# Altium footprint library Components - 01.03.23 - 12.42.PcbLib: 3 footprints
Each footprint in its own frame and in the unit in brackets; x right, y up, seen from the top. Pads: shape width x height; smd on the part's side, far side on the other; paste and mask are expansions set on the pad; w line width, h text height; cw(c..) or ccw(c..) is an arc to the next point about the centre after c.
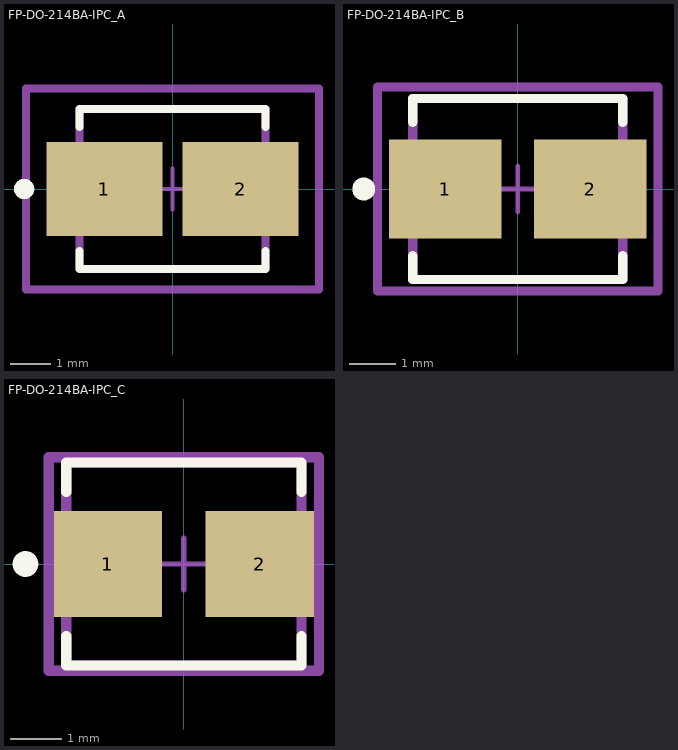
[diagram p0: the footprints below, top view; thin cyan lines are the x and y axes]

## FP-DO-214BA-IPC_A [mm]
pads (2):
  rect 2.85x2.3 smd paste+0 mask+0: 1(-1.675,0) 2(1.675,0)
Top Overlay:
  circle w0.25: c-3.65,0 r0.125
  lines w0.2: -2.285,-1.525 -2.285,-1.97 2.285,-1.97 2.285,-1.525 ; -2.285,1.525 -2.285,1.97 2.285,1.97 2.285,1.525
Top Assembly:
  lines w0.2: -3.6,-2.47 3.6,-2.47 3.6,2.47 -3.6,2.47 -3.6,-2.47
  text ".Designator" at 0,0.188 h1
Top 3D Body:
  lines w0.2: -2.285,-1.97 2.285,-1.97 2.285,1.97 -2.285,1.97 -2.285,-1.97
Top Courtyard:
  lines w0.2: -3.6,-2.47 3.6,-2.47 3.6,2.47 -3.6,2.47 -3.6,-2.47
Top Component Center:
  lines w0.1: -0.5,0 0.5,0 ; 0,-0.5 0,0.5
3D body "Diode_Microsemi_LSM115JE3-TR13_eec.STEP": height 0.25, standoff 0, extent -3.6,-2.47 3.6,2.47

## FP-DO-214BA-IPC_B [mm]
pads (2):
  rect 2.45x2.15 smd paste+0 mask+0: 1(-1.575,0) 2(1.575,0)
Top Overlay:
  circle w0.25: c-3.35,0 r0.125
  lines w0.2: -2.285,-1.45 -2.285,-1.97 2.285,-1.97 2.285,-1.45 ; -2.285,1.45 -2.285,1.97 2.285,1.97 2.285,1.45
Top Assembly:
  lines w0.2: -3.05,-2.22 3.05,-2.22 3.05,2.22 -3.05,2.22 -3.05,-2.22
  text ".Designator" at 0,0.188 h1
Top 3D Body:
  lines w0.2: -2.285,-1.97 2.285,-1.97 2.285,1.97 -2.285,1.97 -2.285,-1.97
Top Courtyard:
  lines w0.2: -3.05,-2.22 3.05,-2.22 3.05,2.22 -3.05,2.22 -3.05,-2.22
Top Component Center:
  lines w0.1: -0.5,0 0.5,0 ; 0,-0.5 0,0.5
3D body "Diode_Microsemi_LSM115JE3-TR13_eec.STEP": height 0.25, standoff 0, extent -3.05,-2.22 3.05,2.22

## FP-DO-214BA-IPC_C [mm]
pads (2):
  rect 2.1x2.05 smd paste+0 mask+0: 1(-1.475,0) 2(1.475,0)
Top Overlay:
  circle w0.25: c-3.075,0 r0.125
  lines w0.2: -2.285,-1.4 -2.285,-1.97 2.285,-1.97 2.285,-1.4 ; -2.285,1.4 -2.285,1.97 2.285,1.97 2.285,1.4
Top Assembly:
  lines w0.2: -2.625,-2.07 2.625,-2.07 2.625,2.07 -2.625,2.07 -2.625,-2.07
  text ".Designator" at 0,0.188 h1
Top 3D Body:
  lines w0.2: -2.285,-1.97 2.285,-1.97 2.285,1.97 -2.285,1.97 -2.285,-1.97
Top Courtyard:
  lines w0.2: -2.625,-2.07 2.625,-2.07 2.625,2.07 -2.625,2.07 -2.625,-2.07
Top Component Center:
  lines w0.1: -0.5,0 0.5,0 ; 0,-0.5 0,0.5
3D body "Diode_Microsemi_LSM115JE3-TR13_eec.STEP": height 0.25, standoff 0, extent -2.625,-2.07 2.625,2.07